# Altium schematic symbol library RS232 DB9.SchLib: 40 symbols
Pins are listed as number, name and electrical type; pins without a type are passive.

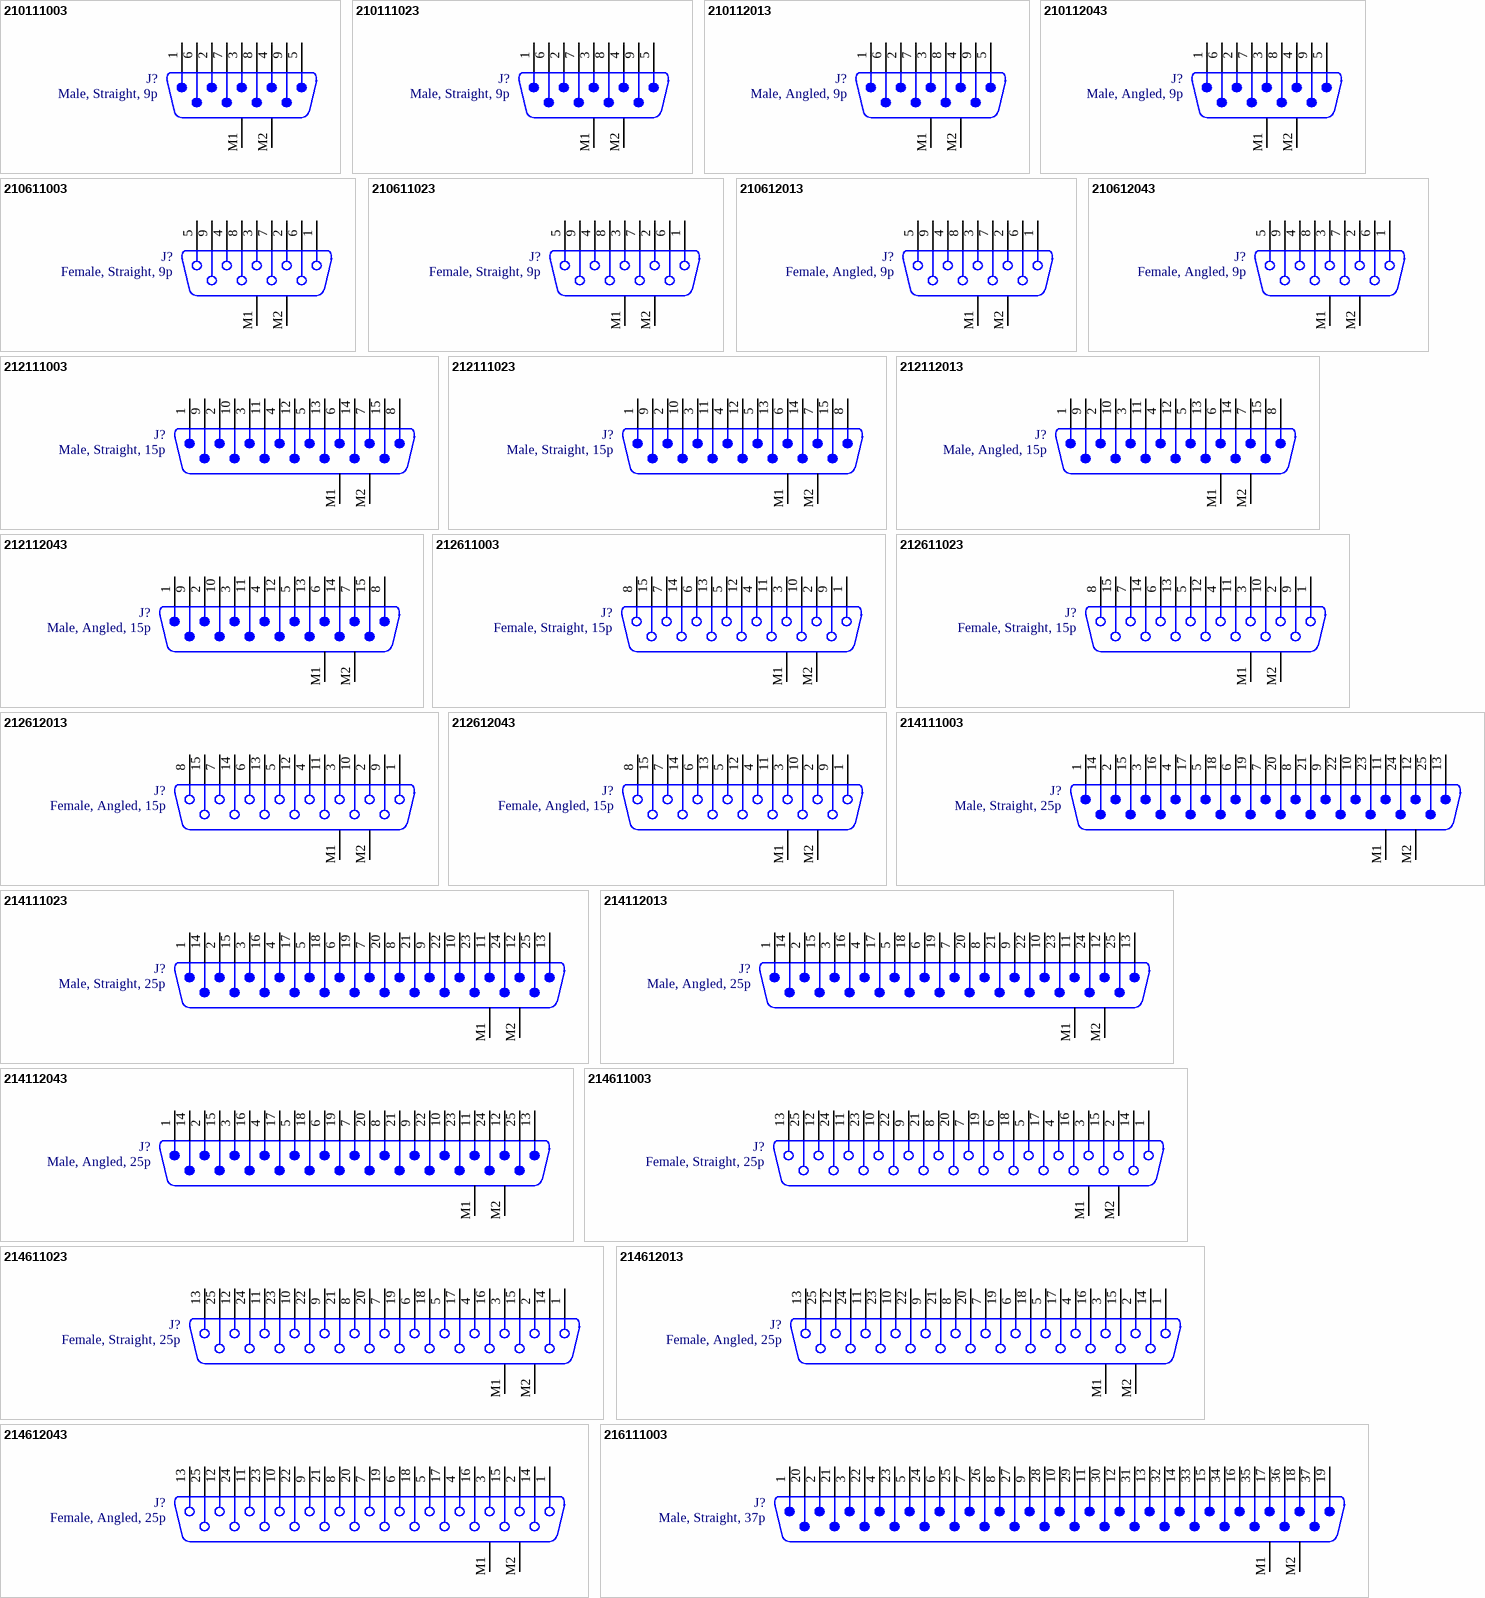
[diagram p0: symbols 210111003 to 216111003]

## 210111003
designator J?, comment Male, Straight, 9p
WE-D-SUB Filter Connector, THT, Straight, Male, 9p; Manufacturer Part Number: 210111003; Manufacturer: Wurth Elektronik; Insulation Resistance min.: 1000MOhm; Pin Number: 9; Rated Voltage: 100VDC; Rated Current: 5A; Withstand Voltage: 250Vrms; ComponentLink1Description: Manufacturer; ComponentLink1URL: http://www.we-online.de; ComponentLink2Description: Datasheet; Gender: Male; ComponentLink2URL: https://www.we-online.com/catalog/datasheet/210111003.pdf; Mounting Technology: THT; Packaging: Tray; Orientation: Straight; Operating Temperature: -55 to +125degC; Published Date: April 2020
footprint 210111003 (D-SUB-Filter, Solder Pin Straight, Male, 09p)
pins: 1, 2, 3, 4, 5, 6, 7, 8, 9, M1, M2
2 alternate drawings of the same symbol

## 210111023
designator J?, comment Male, Straight, 9p
WE-D-SUB Filter Connector, THT, Straight, Male, 9p; Manufacturer Part Number: 210111023; Manufacturer: Wurth Elektronik; Insulation Resistance min.: 1000MOhm; Pin Number: 9; Rated Voltage: 100VDC; Rated Current: 5A; Withstand Voltage: 250Vrms; ComponentLink1Description: Manufacturer; ComponentLink1URL: http://www.we-online.de; ComponentLink2Description: Datasheet; Gender: Male; ComponentLink2URL: https://www.we-online.com/catalog/datasheet/210111023.pdf; Mounting Technology: THT; Packaging: Tray; Orientation: Straight; Operating Temperature: -55 to +125degC; Published Date: April 2020
footprint 210111023
pins: 1, 2, 3, 4, 5, 6, 7, 8, 9, M1, M2

## 210112013
designator J?, comment Male, Angled, 9p
WE-D-SUB Filter Connector, THT, Angled, Male, 9p; Manufacturer Part Number: 210112013; Manufacturer: Wurth Elektronik; Insulation Resistance min.: 1000MOhm; Pin Number: 9; Rated Voltage: 100VDC; Rated Current: 5A; Withstand Voltage: 250Vrms; ComponentLink1Description: Manufacturer; ComponentLink1URL: http://www.we-online.de; ComponentLink2Description: Datasheet; Gender: Male; ComponentLink2URL: https://www.we-online.com/catalog/datasheet/210112013.pdf; Mounting Technology: THT; Packaging: Tray; Orientation: Angled; Operating Temperature: -55 to +125degC; Published Date: April 2020
footprint 210112013
pins: 1, 2, 3, 4, 5, 6, 7, 8, 9, M1, M2

## 210112043
designator J?, comment Male, Angled, 9p
WE-D-SUB Filter Connector, THT, Angled, Male, 9p; Manufacturer Part Number: 210112043; Manufacturer: Wurth Elektronik; Insulation Resistance min.: 1000MOhm; Pin Number: 9; Rated Voltage: 100VDC; Rated Current: 5A; Withstand Voltage: 250Vrms; ComponentLink1Description: Manufacturer; ComponentLink1URL: http://www.we-online.de; ComponentLink2Description: Datasheet; Gender: Male; ComponentLink2URL: https://www.we-online.com/catalog/datasheet/210112043.pdf; Mounting Technology: THT; Packaging: Tray; Orientation: Angled; Operating Temperature: -55 to +125degC; Published Date: April 2020
footprint 210112043
pins: 1, 2, 3, 4, 5, 6, 7, 8, 9, M1, M2

## 210611003
designator J?, comment Female, Straight, 9p
WE-D-SUB Filter Connector, THT, Straight, Female, 9p; Manufacturer Part Number: 210611003; Manufacturer: Wurth Elektronik; Insulation Resistance min.: 1000MOhm; Pin Number: 9; Rated Voltage: 100VDC; Rated Current: 5A; Withstand Voltage: 250Vrms; ComponentLink1Description: Manufacturer; ComponentLink1URL: http://www.we-online.de; ComponentLink2Description: Datasheet; Gender: Female; ComponentLink2URL: https://www.we-online.com/catalog/datasheet/210611003.pdf; Mounting Technology: THT; Packaging: Tray; Orientation: Straight; Operating Temperature: -55 to +125degC; Published Date: April 2020
footprint 210611003 (D-SUB-Filter, Solder Pin Straight, Female, 09p)
pins: 1, 2, 3, 4, 5, 6, 7, 8, 9, M1, M2

## 210611023
designator J?, comment Female, Straight, 9p
WE-D-SUB Filter Connector, THT, Straight, Female, 9p; Manufacturer Part Number: 210611023; Manufacturer: Wurth Elektronik; Insulation Resistance min.: 1000MOhm; Pin Number: 9; Rated Voltage: 100VDC; Rated Current: 5A; Withstand Voltage: 250Vrms; ComponentLink1Description: Manufacturer; ComponentLink1URL: http://www.we-online.de; ComponentLink2Description: Datasheet; Gender: Female; ComponentLink2URL: https://www.we-online.com/catalog/datasheet/210611023.pdf; Mounting Technology: THT; Packaging: Tray; Orientation: Straight; Operating Temperature: -55 to +125degC; Published Date: April 2020
footprint 210611023
pins: 1, 2, 3, 4, 5, 6, 7, 8, 9, M1, M2

## 210612013
designator J?, comment Female, Angled, 9p
WE-D-SUB Filter Connector, THT, Angled, Female, 9p; Manufacturer Part Number: 210612013; Manufacturer: Wurth Elektronik; Insulation Resistance min.: 1000MOhm; Pin Number: 9; Rated Voltage: 100VDC; Rated Current: 5A; Withstand Voltage: 250Vrms; ComponentLink1Description: Manufacturer; ComponentLink1URL: http://www.we-online.de; ComponentLink2Description: Datasheet; Gender: Female; ComponentLink2URL: https://www.we-online.com/catalog/datasheet/210612013.pdf; Mounting Technology: THT; Packaging: Tray; Orientation: Angled; Operating Temperature: -55 to +125degC; Published Date: April 2020
footprint 210612013
pins: 1, 2, 3, 4, 5, 6, 7, 8, 9, M1, M2

## 210612043
designator J?, comment Female, Angled, 9p
WE-D-SUB Filter Connector, THT, Angled, Female, 9p; Manufacturer Part Number: 210612043; Manufacturer: Wurth Elektronik; Insulation Resistance min.: 1000MOhm; Pin Number: 9; Rated Voltage: 100VDC; Rated Current: 5A; Withstand Voltage: 250Vrms; ComponentLink1Description: Manufacturer; ComponentLink1URL: http://www.we-online.de; ComponentLink2Description: Datasheet; Gender: Female; ComponentLink2URL: https://www.we-online.com/catalog/datasheet/210612043.pdf; Mounting Technology: THT; Packaging: Tray; Orientation: Angled; Operating Temperature: -55 to +125degC; Published Date: April 2020
footprint 210612043
pins: 1, 2, 3, 4, 5, 6, 7, 8, 9, M1, M2

## 212111003
designator J?, comment Male, Straight, 15p
WE-D-SUB Filter Connector, THT, Straight, Male, 15p; Manufacturer Part Number: 212111003; Manufacturer: Wurth Elektronik; Insulation Resistance min.: 1000MOhm; Pin Number: 15; Rated Voltage: 100VDC; Rated Current: 5A; Withstand Voltage: 250Vrms; ComponentLink1Description: Manufacturer; ComponentLink1URL: http://www.we-online.de; ComponentLink2Description: Datasheet; Gender: Male; ComponentLink2URL: https://www.we-online.com/catalog/datasheet/212111003.pdf; Mounting Technology: THT; Packaging: Tray; Orientation: Straight; Operating Temperature: -55 to +125degC; Published Date: April 2020
footprint 212111003
pins: 1, 2, 3, 4, 5, 6, 7, 8, 9, 10, 11, 12, 13, 14, 15, M1, M2

## 212111023
designator J?, comment Male, Straight, 15p
WE-D-SUB Filter Connector, THT, Straight, Male, 15p; Manufacturer Part Number: 212111023; Manufacturer: Wurth Elektronik; Insulation Resistance min.: 1000MOhm; Pin Number: 15; Rated Voltage: 100VDC; Rated Current: 5A; Withstand Voltage: 250Vrms; ComponentLink1Description: Manufacturer; ComponentLink1URL: http://www.we-online.de; ComponentLink2Description: Datasheet; Gender: Male; ComponentLink2URL: https://www.we-online.com/catalog/datasheet/212111023.pdf; Mounting Technology: THT; Packaging: Tray; Orientation: Straight; Operating Temperature: -55 to +125degC; Published Date: April 2020
footprint 212111023
pins: 1, 2, 3, 4, 5, 6, 7, 8, 9, 10, 11, 12, 13, 14, 15, M1, M2

## 212112013
designator J?, comment Male, Angled, 15p
WE-D-SUB Filter Connector, THT, Angled, Male, 15p; Manufacturer Part Number: 212112013; Manufacturer: Wurth Elektronik; Insulation Resistance min.: 1000MOhm; Pin Number: 15; Rated Voltage: 100VDC; Rated Current: 5A; Withstand Voltage: 250Vrms; ComponentLink1Description: Manufacturer; ComponentLink1URL: http://www.we-online.de; ComponentLink2Description: Datasheet; Gender: Male; ComponentLink2URL: https://www.we-online.com/catalog/datasheet/212112013.pdf; Mounting Technology: THT; Packaging: Tray; Orientation: Angled; Operating Temperature: -55 to +125degC; Published Date: April 2020
footprint 212112013
pins: 1, 2, 3, 4, 5, 6, 7, 8, 9, 10, 11, 12, 13, 14, 15, M1, M2

## 212112043
designator J?, comment Male, Angled, 15p
WE-D-SUB Filter Connector, THT, Angled, Male, 15p; Manufacturer Part Number: 212112043; Manufacturer: Wurth Elektronik; Insulation Resistance min.: 1000MOhm; Pin Number: 15; Rated Voltage: 100VDC; Rated Current: 5A; Withstand Voltage: 250Vrms; ComponentLink1Description: Manufacturer; ComponentLink1URL: http://www.we-online.de; ComponentLink2Description: Datasheet; Gender: Male; ComponentLink2URL: https://www.we-online.com/catalog/datasheet/212112043.pdf; Mounting Technology: THT; Packaging: Tray; Orientation: Angled; Operating Temperature: -55 to +125degC; Published Date: April 2020
footprint 212112043
pins: 1, 2, 3, 4, 5, 6, 7, 8, 9, 10, 11, 12, 13, 14, 15, M1, M2

## 212611003
designator J?, comment Female, Straight, 15p
WE-D-SUB Filter Connector, THT, Straight, Female, 15p; Manufacturer Part Number: 212611003; Manufacturer: Wurth Elektronik; Insulation Resistance min.: 1000MOhm; Pin Number: 15; Rated Voltage: 100VDC; Rated Current: 5A; Withstand Voltage: 250Vrms; ComponentLink1Description: Manufacturer; ComponentLink1URL: http://www.we-online.de; ComponentLink2Description: Datasheet; Gender: Female; ComponentLink2URL: https://www.we-online.com/catalog/datasheet/212611003.pdf; Mounting Technology: THT; Packaging: Tray; Orientation: Straight; Operating Temperature: -55 to +125degC; Published Date: April 2020
footprint 212611003
pins: 1, 2, 3, 4, 5, 6, 7, 8, 9, 10, 11, 12, 13, 14, 15, M1, M2

## 212611023
designator J?, comment Female, Straight, 15p
WE-D-SUB Filter Connector, THT, Straight, Female, 15p; Manufacturer Part Number: 212611023; Manufacturer: Wurth Elektronik; Insulation Resistance min.: 1000MOhm; Pin Number: 15; Rated Voltage: 100VDC; Rated Current: 5A; Withstand Voltage: 250Vrms; ComponentLink1Description: Manufacturer; ComponentLink1URL: http://www.we-online.de; ComponentLink2Description: Datasheet; Gender: Female; ComponentLink2URL: https://www.we-online.com/catalog/datasheet/212611023.pdf; Mounting Technology: THT; Packaging: Tray; Orientation: Straight; Operating Temperature: -55 to +125degC; Published Date: April 2020
footprint 212611023
pins: 1, 2, 3, 4, 5, 6, 7, 8, 9, 10, 11, 12, 13, 14, 15, M1, M2

## 212612013
designator J?, comment Female, Angled, 15p
WE-D-SUB Filter Connector, THT, Angled, Female, 15p; Manufacturer Part Number: 212612013; Manufacturer: Wurth Elektronik; Insulation Resistance min.: 1000MOhm; Pin Number: 15; Rated Voltage: 100VDC; Rated Current: 5A; Withstand Voltage: 250Vrms; ComponentLink1Description: Manufacturer; ComponentLink1URL: http://www.we-online.de; ComponentLink2Description: Datasheet; Gender: Female; ComponentLink2URL: https://www.we-online.com/catalog/datasheet/212612013.pdf; Mounting Technology: THT; Packaging: Tray; Orientation: Angled; Operating Temperature: -55 to +125degC; Published Date: April 2020
footprint 212612013
pins: 1, 2, 3, 4, 5, 6, 7, 8, 9, 10, 11, 12, 13, 14, 15, M1, M2

## 212612043
designator J?, comment Female, Angled, 15p
WE-D-SUB Filter Connector, THT, Angled, Female, 15p; Manufacturer Part Number: 212612043; Manufacturer: Wurth Elektronik; Insulation Resistance min.: 1000MOhm; Pin Number: 15; Rated Voltage: 100VDC; Rated Current: 5A; Withstand Voltage: 250Vrms; ComponentLink1Description: Manufacturer; ComponentLink1URL: http://www.we-online.de; ComponentLink2Description: Datasheet; Gender: Female; ComponentLink2URL: https://www.we-online.com/catalog/datasheet/212612043.pdf; Mounting Technology: THT; Packaging: Tray; Orientation: Angled; Operating Temperature: -55 to +125degC; Published Date: April 2020
footprint 212612043 (D-SUB-Filter Bent 90¡ã THT, Female, 15p)
pins: 1, 2, 3, 4, 5, 6, 7, 8, 9, 10, 11, 12, 13, 14, 15, M1, M2

## 214111003
designator J?, comment Male, Straight, 25p
WE-D-SUB Filter Connector, THT, Straight, Male, 25p; Manufacturer Part Number: 214111003; Manufacturer: Wurth Elektronik; Insulation Resistance min.: 1000MOhm; Pin Number: 25; Rated Voltage: 100VDC; Rated Current: 5A; Withstand Voltage: 250Vrms; ComponentLink1Description: Manufacturer; ComponentLink1URL: http://www.we-online.de; ComponentLink2Description: Datasheet; Gender: Male; ComponentLink2URL: https://www.we-online.com/catalog/datasheet/214111003.pdf; Mounting Technology: THT; Packaging: Tray; Orientation: Straight; Operating Temperature: -55 to +125degC; Published Date: April 2020
footprint 214111003
pins: 1, 2, 3, 4, 5, 6, 7, 8, 9, 10, 11, 12, 13, 14, 15, 16, 17, 18, 19, 20, 21, 22, 23, 24, 25, M1, M2

## 214111023
designator J?, comment Male, Straight, 25p
WE-D-SUB Filter Connector, THT, Straight, Male, 25p; Manufacturer Part Number: 214111023; Manufacturer: Wurth Elektronik; Insulation Resistance min.: 1000MOhm; Pin Number: 25; Rated Voltage: 100VDC; Rated Current: 5A; Withstand Voltage: 250Vrms; ComponentLink1Description: Manufacturer; ComponentLink1URL: http://www.we-online.de; ComponentLink2Description: Datasheet; Gender: Male; ComponentLink2URL: https://www.we-online.com/catalog/datasheet/214111023.pdf; Mounting Technology: THT; Packaging: Tray; Orientation: Straight; Operating Temperature: -55 to +125degC; Published Date: April 2020
footprint 214111023
pins: 1, 2, 3, 4, 5, 6, 7, 8, 9, 10, 11, 12, 13, 14, 15, 16, 17, 18, 19, 20, 21, 22, 23, 24, 25, M1, M2

## 214112013
designator J?, comment Male, Angled, 25p
WE-D-SUB Filter Connector, THT, Angled, Male, 25p; Manufacturer Part Number: 214112013; Manufacturer: Wurth Elektronik; Insulation Resistance min.: 1000MOhm; Pin Number: 25; Rated Voltage: 100VDC; Rated Current: 5A; Withstand Voltage: 250Vrms; ComponentLink1Description: Manufacturer; ComponentLink1URL: http://www.we-online.de; ComponentLink2Description: Datasheet; Gender: Male; ComponentLink2URL: https://www.we-online.com/catalog/datasheet/214112013.pdf; Mounting Technology: THT; Packaging: Tray; Orientation: Angled; Operating Temperature: -55 to +125degC; Published Date: April 2020
footprint 214112013
pins: 1, 2, 3, 4, 5, 6, 7, 8, 9, 10, 11, 12, 13, 14, 15, 16, 17, 18, 19, 20, 21, 22, 23, 24, 25, M1, M2

## 214112043
designator J?, comment Male, Angled, 25p
WE-D-SUB Filter Connector, THT, Angled, Male, 25p; Manufacturer Part Number: 214112043; Manufacturer: Wurth Elektronik; Insulation Resistance min.: 1000MOhm; Pin Number: 25; Rated Voltage: 100VDC; Rated Current: 5A; Withstand Voltage: 250Vrms; ComponentLink1Description: Manufacturer; ComponentLink1URL: http://www.we-online.de; ComponentLink2Description: Datasheet; Gender: Male; ComponentLink2URL: https://www.we-online.com/catalog/datasheet/214112043.pdf; Mounting Technology: THT; Packaging: Tray; Orientation: Angled; Operating Temperature: -55 to +125degC; Published Date: April 2020
footprint 214112043
pins: 1, 2, 3, 4, 5, 6, 7, 8, 9, 10, 11, 12, 13, 14, 15, 16, 17, 18, 19, 20, 21, 22, 23, 24, 25, M1, M2

## 214611003
designator J?, comment Female, Straight, 25p
WE-D-SUB Filter Connector, THT, Straight, Female, 25p; Manufacturer Part Number: 214611003; Manufacturer: Wurth Elektronik; Insulation Resistance min.: 1000MOhm; Pin Number: 25; Rated Voltage: 100VDC; Rated Current: 5A; Withstand Voltage: 250Vrms; ComponentLink1Description: Manufacturer; ComponentLink1URL: http://www.we-online.de; ComponentLink2Description: Datasheet; Gender: Female; ComponentLink2URL: https://www.we-online.com/catalog/datasheet/214611003.pdf; Mounting Technology: THT; Packaging: Tray; Orientation: Straight; Operating Temperature: -55 to +125degC; Published Date: April 2020
footprint 214611003
pins: 1, 2, 3, 4, 5, 6, 7, 8, 9, 10, 11, 12, 13, 14, 15, 16, 17, 18, 19, 20, 21, 22, 23, 24, 25, M1, M2

## 214611023
designator J?, comment Female, Straight, 25p
WE-D-SUB Filter Connector, THT, Straight, Female, 25p; Manufacturer Part Number: 214611023; Manufacturer: Wurth Elektronik; Insulation Resistance min.: 1000MOhm; Pin Number: 25; Rated Voltage: 100VDC; Rated Current: 5A; Withstand Voltage: 250Vrms; ComponentLink1Description: Manufacturer; ComponentLink1URL: http://www.we-online.de; ComponentLink2Description: Datasheet; Gender: Female; ComponentLink2URL: https://www.we-online.com/catalog/datasheet/214611023.pdf; Mounting Technology: THT; Packaging: Tray; Orientation: Straight; Operating Temperature: -55 to +125degC; Published Date: April 2020
footprint 214611023
pins: 1, 2, 3, 4, 5, 6, 7, 8, 9, 10, 11, 12, 13, 14, 15, 16, 17, 18, 19, 20, 21, 22, 23, 24, 25, M1, M2

## 214612013
designator J?, comment Female, Angled, 25p
WE-D-SUB Filter Connector, THT, Angled, Female, 25p; Manufacturer Part Number: 214612013; Manufacturer: Wurth Elektronik; Insulation Resistance min.: 1000MOhm; Pin Number: 25; Rated Voltage: 100VDC; Rated Current: 5A; Withstand Voltage: 250Vrms; ComponentLink1Description: Manufacturer; ComponentLink1URL: http://www.we-online.de; ComponentLink2Description: Datasheet; Gender: Female; ComponentLink2URL: https://www.we-online.com/catalog/datasheet/214612013.pdf; Mounting Technology: THT; Packaging: Tray; Orientation: Angled; Operating Temperature: -55 to +125degC; Published Date: April 2020
footprint 214612013
pins: 1, 2, 3, 4, 5, 6, 7, 8, 9, 10, 11, 12, 13, 14, 15, 16, 17, 18, 19, 20, 21, 22, 23, 24, 25, M1, M2

## 214612043
designator J?, comment Female, Angled, 25p
WE-D-SUB Filter Connector, THT, Angled, Female, 25p; Manufacturer Part Number: 214612043; Manufacturer: Wurth Elektronik; Insulation Resistance min.: 1000MOhm; Pin Number: 25; Rated Voltage: 100VDC; Rated Current: 5A; Withstand Voltage: 250Vrms; ComponentLink1Description: Manufacturer; ComponentLink1URL: http://www.we-online.de; ComponentLink2Description: Datasheet; Gender: Female; ComponentLink2URL: https://www.we-online.com/catalog/datasheet/214612043.pdf; Mounting Technology: THT; Packaging: Tray; Orientation: Angled; Operating Temperature: -55 to +125degC; Published Date: April 2020
footprint 214612043
pins: 1, 2, 3, 4, 5, 6, 7, 8, 9, 10, 11, 12, 13, 14, 15, 16, 17, 18, 19, 20, 21, 22, 23, 24, 25, M1, M2

## 216111003
designator J?, comment Male, Straight, 37p
WE-D-SUB Filter Connector, THT, Straight, Male, 37p; Manufacturer Part Number: 216111003; Manufacturer: Wurth Elektronik; Insulation Resistance min.: 1000MOhm; Pin Number: 37; Rated Voltage: 100VDC; Rated Current: 5A; Withstand Voltage: 250Vrms; ComponentLink1Description: Manufacturer; ComponentLink1URL: http://www.we-online.de; ComponentLink2Description: Datasheet; Gender: Male; ComponentLink2URL: https://www.we-online.com/catalog/datasheet/216111003.pdf; Mounting Technology: THT; Packaging: Tray; Orientation: Straight; Operating Temperature: -55 to +125degC; Published Date: April 2020
footprint 216111003
pins: 1, 2, 3, 4, 5, 6, 7, 8, 9, 10, 11, 12, 13, 14, 15, 16, 17, 18, 19, 20, 21, 22, 23, 24, 25, 26, 27, 28, 29, 30, 31, 32, 33, 34, 35, 36, 37, M1, M2

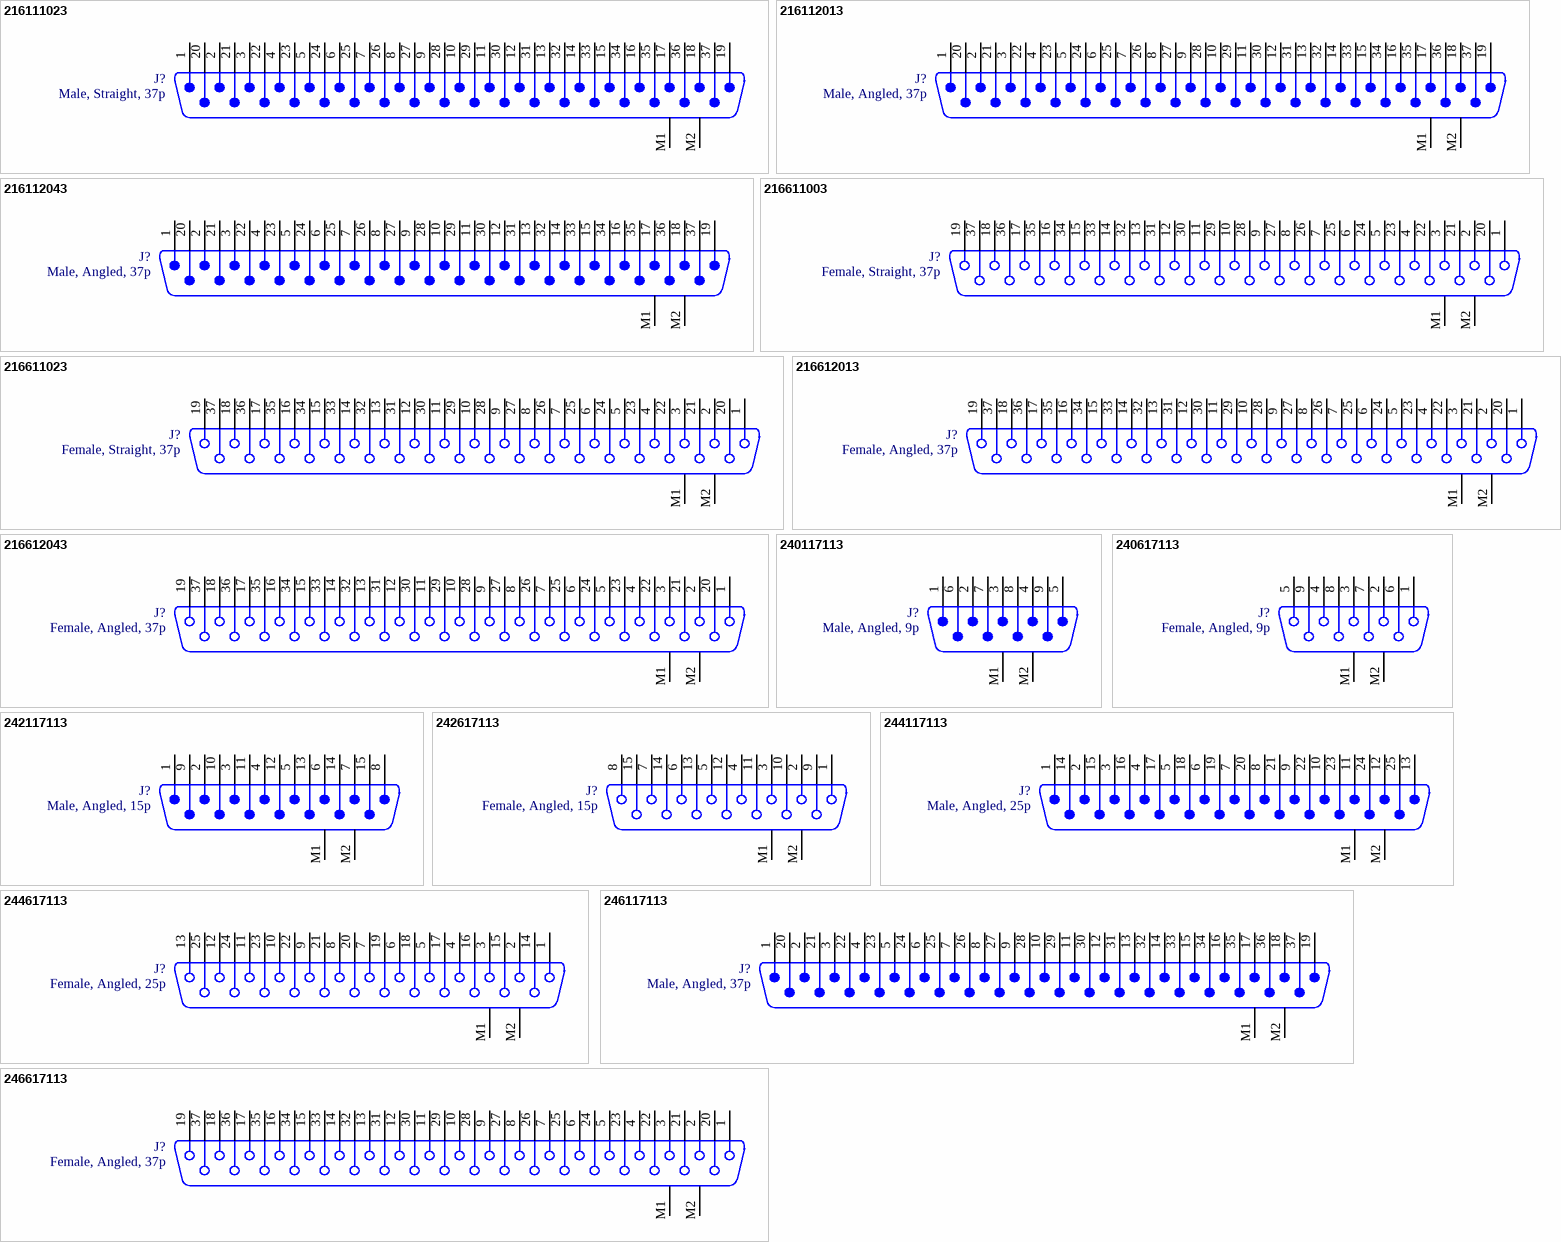
[diagram p1: symbols 216111023 to 246617113]

## 216111023
designator J?, comment Male, Straight, 37p
WE-D-SUB Filter Connector, THT, Straight, Male, 37p; Manufacturer Part Number: 216111023; Manufacturer: Wurth Elektronik; Insulation Resistance min.: 1000MOhm; Pin Number: 37; Rated Voltage: 100VDC; Rated Current: 5A; Withstand Voltage: 250Vrms; ComponentLink1Description: Manufacturer; ComponentLink1URL: http://www.we-online.de; ComponentLink2Description: Datasheet; Gender: Male; ComponentLink2URL: https://www.we-online.com/catalog/datasheet/216111023.pdf; Mounting Technology: THT; Packaging: Tray; Orientation: Straight; Operating Temperature: -55 to +125degC; Published Date: April 2020
footprint 216111023
pins: 1, 2, 3, 4, 5, 6, 7, 8, 9, 10, 11, 12, 13, 14, 15, 16, 17, 18, 19, 20, 21, 22, 23, 24, 25, 26, 27, 28, 29, 30, 31, 32, 33, 34, 35, 36, 37, M1, M2

## 216112013
designator J?, comment Male, Angled, 37p
WE-D-SUB Filter Connector, THT, Angled, Male, 37p; Manufacturer Part Number: 216112013; Manufacturer: Wurth Elektronik; Insulation Resistance min.: 1000MOhm; Pin Number: 37; Rated Voltage: 100VDC; Rated Current: 5A; Withstand Voltage: 250Vrms; ComponentLink1Description: Manufacturer; ComponentLink1URL: http://www.we-online.de; ComponentLink2Description: Datasheet; Gender: Male; ComponentLink2URL: https://www.we-online.com/catalog/datasheet/216112013.pdf; Mounting Technology: THT; Packaging: Tray; Orientation: Angled; Operating Temperature: -55 to +125degC; Published Date: April 2020
footprint 216112013
pins: 1, 2, 3, 4, 5, 6, 7, 8, 9, 10, 11, 12, 13, 14, 15, 16, 17, 18, 19, 20, 21, 22, 23, 24, 25, 26, 27, 28, 29, 30, 31, 32, 33, 34, 35, 36, 37, M1, M2

## 216112043
designator J?, comment Male, Angled, 37p
WE-D-SUB Filter Connector, THT, Angled, Male, 37p; Manufacturer Part Number: 216112043; Manufacturer: Wurth Elektronik; Insulation Resistance min.: 1000MOhm; Pin Number: 37; Rated Voltage: 100VDC; Rated Current: 5A; Withstand Voltage: 250Vrms; ComponentLink1Description: Manufacturer; ComponentLink1URL: http://www.we-online.de; ComponentLink2Description: Datasheet; Gender: Male; ComponentLink2URL: https://www.we-online.com/catalog/datasheet/216112043.pdf; Mounting Technology: THT; Packaging: Tray; Orientation: Angled; Operating Temperature: -55 to +125degC; Published Date: April 2020
footprint 216112043
pins: 1, 2, 3, 4, 5, 6, 7, 8, 9, 10, 11, 12, 13, 14, 15, 16, 17, 18, 19, 20, 21, 22, 23, 24, 25, 26, 27, 28, 29, 30, 31, 32, 33, 34, 35, 36, 37, M1, M2

## 216611003
designator J?, comment Female, Straight, 37p
WE-D-SUB Filter Connector, THT, Straight, Female, 37p; Manufacturer Part Number: 216611003; Manufacturer: Wurth Elektronik; Insulation Resistance min.: 1000MOhm; Pin Number: 37; Rated Voltage: 100VDC; Rated Current: 5A; Withstand Voltage: 250Vrms; ComponentLink1Description: Manufacturer; ComponentLink1URL: http://www.we-online.de; ComponentLink2Description: Datasheet; Gender: Female; ComponentLink2URL: https://www.we-online.com/catalog/datasheet/216611003.pdf; Mounting Technology: THT; Packaging: Tray; Orientation: Straight; Operating Temperature: -55 to +125degC; Published Date: April 2020
footprint 216611003
pins: 1, 2, 3, 4, 5, 6, 7, 8, 9, 10, 11, 12, 13, 14, 15, 16, 17, 18, 19, 20, 21, 22, 23, 24, 25, 26, 27, 28, 29, 30, 31, 32, 33, 34, 35, 36, 37, M1, M2

## 216611023
designator J?, comment Female, Straight, 37p
WE-D-SUB Filter Connector, THT, Straight, Female, 37p; Manufacturer Part Number: 216611023; Manufacturer: Wurth Elektronik; Insulation Resistance min.: 1000MOhm; Pin Number: 37; Rated Voltage: 100VDC; Rated Current: 5A; Withstand Voltage: 250Vrms; ComponentLink1Description: Manufacturer; ComponentLink1URL: http://www.we-online.de; ComponentLink2Description: Datasheet; Gender: Female; ComponentLink2URL: https://www.we-online.com/catalog/datasheet/216611023.pdf; Mounting Technology: THT; Packaging: Tray; Orientation: Straight; Operating Temperature: -55 to +125degC; Published Date: April 2020
footprint 216611023
pins: 1, 2, 3, 4, 5, 6, 7, 8, 9, 10, 11, 12, 13, 14, 15, 16, 17, 18, 19, 20, 21, 22, 23, 24, 25, 26, 27, 28, 29, 30, 31, 32, 33, 34, 35, 36, 37, M1, M2

## 216612013
designator J?, comment Female, Angled, 37p
WE-D-SUB Filter Connector, THT, Angled, Female, 37p; Manufacturer Part Number: 216612013; Manufacturer: Wurth Elektronik; Insulation Resistance min.: 1000MOhm; Pin Number: 37; Rated Voltage: 100VDC; Rated Current: 5A; Withstand Voltage: 250Vrms; ComponentLink1Description: Manufacturer; ComponentLink1URL: http://www.we-online.de; ComponentLink2Description: Datasheet; Gender: Female; ComponentLink2URL: https://www.we-online.com/catalog/datasheet/216612013.pdf; Mounting Technology: THT; Packaging: Tray; Orientation: Angled; Operating Temperature: -55 to +125degC; Published Date: April 2020
footprint 216612013
pins: 1, 2, 3, 4, 5, 6, 7, 8, 9, 10, 11, 12, 13, 14, 15, 16, 17, 18, 19, 20, 21, 22, 23, 24, 25, 26, 27, 28, 29, 30, 31, 32, 33, 34, 35, 36, 37, M1, M2

## 216612043
designator J?, comment Female, Angled, 37p
WE-D-SUB Filter Connector, THT, Angled, Female, 37p; Manufacturer Part Number: 216612043; Manufacturer: Wurth Elektronik; Insulation Resistance min.: 1000MOhm; Pin Number: 37; Rated Voltage: 100VDC; Rated Current: 5A; Withstand Voltage: 250Vrms; ComponentLink1Description: Manufacturer; ComponentLink1URL: http://www.we-online.de; ComponentLink2Description: Datasheet; Gender: Female; ComponentLink2URL: https://www.we-online.com/catalog/datasheet/216612043.pdf; Mounting Technology: THT; Packaging: Tray; Orientation: Angled; Operating Temperature: -55 to +125degC; Published Date: April 2020
footprint 216612043
pins: 1, 2, 3, 4, 5, 6, 7, 8, 9, 10, 11, 12, 13, 14, 15, 16, 17, 18, 19, 20, 21, 22, 23, 24, 25, 26, 27, 28, 29, 30, 31, 32, 33, 34, 35, 36, 37, M1, M2

## 240117113
designator J?, comment Male, Angled, 9p
WE-D-SUB Filter Connector, SMT, Angled, Male, 9p; Manufacturer Part Number: 240117113; Manufacturer: Wurth Elektronik; Insulation Resistance min.: 1000MOhm; Pin Number: 9; Rated Voltage: 125VDC; Rated Current: 5A; Withstand Voltage: 250Vrms; ComponentLink1Description: Manufacturer; ComponentLink1URL: http://www.we-online.de; ComponentLink2Description: Datasheet; Gender: Male; ComponentLink2URL: https://www.we-online.com/catalog/datasheet/240117113.pdf; Mounting Technology: SMT; Packaging: Tray; Orientation: Angled; Operating Temperature: -55 to +125degC; Published Date: April 2020
footprint 240117113 (WE-D-SUB Filter Connector, SMT, Angled, Male, 9p)
pins: 1, 2, 3, 4, 5, 6, 7, 8, 9, M1, M2

## 240617113
designator J?, comment Female, Angled, 9p
WE-D-SUB Filter Connector, SMT, Angled, Female, 9p; Manufacturer Part Number: 240617113; Manufacturer: Wurth Elektronik; Insulation Resistance min.: 1000MOhm; Pin Number: 9; Rated Voltage: 125VDC; Rated Current: 5A; Withstand Voltage: 250Vrms; ComponentLink1Description: Manufacturer; ComponentLink1URL: http://www.we-online.de; ComponentLink2Description: Datasheet; Gender: Female; ComponentLink2URL: https://www.we-online.com/catalog/datasheet/240617113.pdf; Mounting Technology: SMT; Packaging: Tray; Orientation: Angled; Operating Temperature: -55 to +125degC; Published Date: April 2020
footprint 240617113
pins: 1, 2, 3, 4, 5, 6, 7, 8, 9, M1, M2

## 242117113
designator J?, comment Male, Angled, 15p
WE-D-SUB Filter Connector, SMT, Angled, Male, 15p; Manufacturer Part Number: 242117113; Manufacturer: Wurth Elektronik; Insulation Resistance min.: 1000MOhm; Pin Number: 15; Rated Voltage: 125VDC; Rated Current: 5A; Withstand Voltage: 250Vrms; ComponentLink1Description: Manufacturer; ComponentLink1URL: http://www.we-online.de; ComponentLink2Description: Datasheet; Gender: Male; ComponentLink2URL: https://www.we-online.com/catalog/datasheet/242117113.pdf; Mounting Technology: SMT; Packaging: Tray; Orientation: Angled; Operating Temperature: -55 to +125degC; Published Date: April 2020
footprint 242117113
pins: 1, 2, 3, 4, 5, 6, 7, 8, 9, 10, 11, 12, 13, 14, 15, M1, M2

## 242617113
designator J?, comment Female, Angled, 15p
WE-D-SUB Filter Connector, SMT, Angled, Female, 15p; Manufacturer Part Number: 242617113; Manufacturer: Wurth Elektronik; Insulation Resistance min.: 1000MOhm; Pin Number: 15; Rated Voltage: 125VDC; Rated Current: 5A; Withstand Voltage: 250Vrms; ComponentLink1Description: Manufacturer; ComponentLink1URL: http://www.we-online.de; ComponentLink2Description: Datasheet; Gender: Female; ComponentLink2URL: https://www.we-online.com/catalog/datasheet/242617113.pdf; Mounting Technology: SMT; Packaging: Tray; Orientation: Angled; Operating Temperature: -55 to +125degC; Published Date: April 2020
footprint 242617113
pins: 1, 2, 3, 4, 5, 6, 7, 8, 9, 10, 11, 12, 13, 14, 15, M1, M2

## 244117113
designator J?, comment Male, Angled, 25p
WE-D-SUB Filter Connector, SMT, Angled, Male, 25p; Manufacturer Part Number: 244117113; Manufacturer: Wurth Elektronik; Insulation Resistance min.: 1000MOhm; Pin Number: 25; Rated Voltage: 125VDC; Rated Current: 5A; Withstand Voltage: 250Vrms; ComponentLink1Description: Manufacturer; ComponentLink1URL: http://www.we-online.de; ComponentLink2Description: Datasheet; Gender: Male; ComponentLink2URL: https://www.we-online.com/catalog/datasheet/244117113.pdf; Mounting Technology: SMT; Packaging: Tray; Orientation: Angled; Operating Temperature: -55 to +125degC; Published Date: April 2020
footprint 244117113
pins: 1, 2, 3, 4, 5, 6, 7, 8, 9, 10, 11, 12, 13, 14, 15, 16, 17, 18, 19, 20, 21, 22, 23, 24, 25, M1, M2

## 244617113
designator J?, comment Female, Angled, 25p
WE-D-SUB Filter Connector, SMT, Angled, Female, 25p; Manufacturer Part Number: 244617113; Manufacturer: Wurth Elektronik; Insulation Resistance min.: 1000MOhm; Pin Number: 25; Rated Voltage: 125VDC; Rated Current: 5A; Withstand Voltage: 250Vrms; ComponentLink1Description: Manufacturer; ComponentLink1URL: http://www.we-online.de; ComponentLink2Description: Datasheet; Gender: Female; ComponentLink2URL: https://www.we-online.com/catalog/datasheet/244617113.pdf; Mounting Technology: SMT; Packaging: Tray; Orientation: Angled; Operating Temperature: -55 to +125degC; Published Date: April 2020
footprint 244617113
pins: 1, 2, 3, 4, 5, 6, 7, 8, 9, 10, 11, 12, 13, 14, 15, 16, 17, 18, 19, 20, 21, 22, 23, 24, 25, M1, M2

## 246117113
designator J?, comment Male, Angled, 37p
WE-D-SUB Filter Connector, SMT, Angled, Male, 37p; Manufacturer Part Number: 246117113; Manufacturer: Wurth Elektronik; Insulation Resistance min.: 1000MOhm; Pin Number: 37; Rated Voltage: 125VDC; Rated Current: 5A; Withstand Voltage: 250Vrms; ComponentLink1Description: Manufacturer; ComponentLink1URL: http://www.we-online.de; ComponentLink2Description: Datasheet; Gender: Male; ComponentLink2URL: https://www.we-online.com/catalog/datasheet/246117113.pdf; Mounting Technology: SMT; Packaging: Tray; Orientation: Angled; Operating Temperature: -55 to +125degC; Published Date: April 2020
footprint 246117113
pins: 1, 2, 3, 4, 5, 6, 7, 8, 9, 10, 11, 12, 13, 14, 15, 16, 17, 18, 19, 20, 21, 22, 23, 24, 25, 26, 27, 28, 29, 30, 31, 32, 33, 34, 35, 36, 37, M1, M2

## 246617113
designator J?, comment Female, Angled, 37p
WE-D-SUB Filter Connector, SMT, Angled, Female, 37p; Manufacturer Part Number: 246617113; Manufacturer: Wurth Elektronik; Insulation Resistance min.: 1000MOhm; Pin Number: 37; Rated Voltage: 125VDC; Rated Current: 5A; Withstand Voltage: 250Vrms; ComponentLink1Description: Manufacturer; ComponentLink1URL: http://www.we-online.de; ComponentLink2Description: Datasheet; Gender: Female; ComponentLink2URL: https://www.we-online.com/catalog/datasheet/246617113.pdf; Mounting Technology: SMT; Packaging: Tray; Orientation: Angled; Operating Temperature: -55 to +125degC; Published Date: April 2020
footprint 246617113
pins: 1, 2, 3, 4, 5, 6, 7, 8, 9, 10, 11, 12, 13, 14, 15, 16, 17, 18, 19, 20, 21, 22, 23, 24, 25, 26, 27, 28, 29, 30, 31, 32, 33, 34, 35, 36, 37, M1, M2